# EAGLE library part IC_MAX5902 (library node4)
MAX5902 Hot swap controller
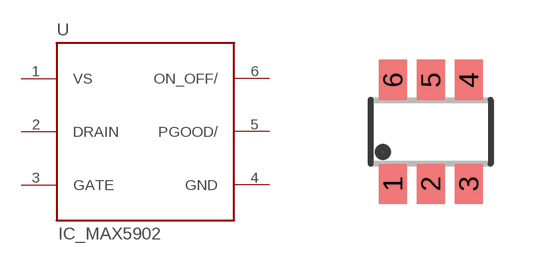
[diagram p0: symbol with the pads of SOT23-6; footprint SOT23-6]

Designator prefix -

## IC_MAX5902  [SOT23-6]
1  VS  pwr
2  DRAIN  in
3  GATE  out
4  GND  sup
5  PGOOD/  out
6  ON_OFF/  in

## Footprint SOT23-6 (pad centres in mm)
smd 0.7 x 1: 1 -0.95,-1.3; 2 0,-1.3; 3 0.95,-1.3; 4 0.95,1.3; 5 0,1.3; 6 -0.95,1.3